# EAGLE library part 6N135 (library IntegratedLib)
The 6N135/ 6N136-L consists of a high efficient AlGaAs Light Emitting Diode and a high speed optical detector.
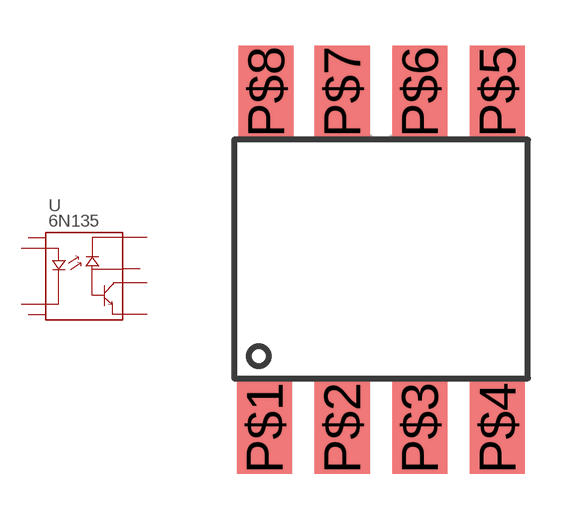
[diagram p55: symbol with the pads of SOP-8(2); footprint SOP-8(2)]

Designator prefix U

## 6N135  [SOP-8(2)]
P$1  1_NC
P$2  2_AN
P$3  3_CAT
P$4  4_NC
P$5  5_GND
P$6  6_VO
P$7  7_VB
P$8  8_VCC

## Footprint SOP-8(2) (pad centres in mm)
smd 1.8 x 3: P$1 -3.81,-5.5; P$2 -1.27,-5.5; P$3 1.27,-5.5; P$4 3.81,-5.5; P$5 3.81,5.5; P$6 1.27,5.5; P$7 -1.27,5.5; P$8 -3.76,5.5